# Altium schematic symbol library PSUs.SchLib: 10 symbols
Pins are listed as number, name and electrical type; pins without a type are passive.

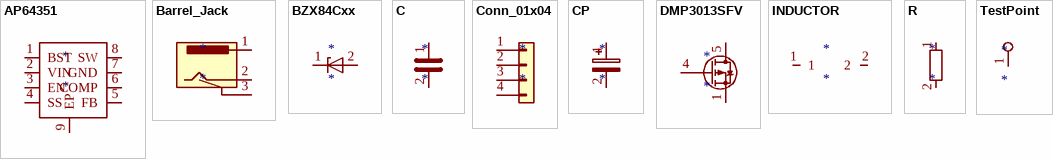
[diagram p0: symbols AP64351 to TestPoint]

## AP64351
designator *
pins: 1 BST, 2 VIN, 3 EN, 4 SS, 5 FB, 6 COMP, 7 GND, 8 SW, 9 EP

## Barrel_Jack
designator *
pins: 1, 2, 3

## BZX84Cxx
designator *
pins: 1 K, 2 A

## C
designator *
pins: 1, 2

## Conn_01x04
designator *
pins: 1 Pin_1, 2 Pin_2, 3 Pin_3, 4 Pin_4

## CP
designator *
pins: 1, 2

## DMP3013SFV
designator *
pins: 1 S, 2 S hidden, 3 S hidden, 4 G, 5 D

## INDUCTOR
designator *
pins: 1, 2

## R
designator *
pins: 1, 2

## TestPoint
designator *
pins: 1